# EAGLE library part SD1602VBWB (library SUNLIKE_LCD_SD1602)
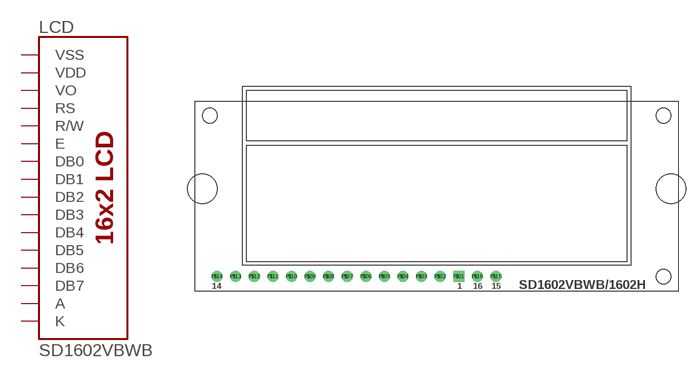
[diagram p0: symbol with the pads of SD1602VBWB; footprint SD1602VBWB]

Designator prefix LCD

## SD1602VBWB  [SD1602VBWB]
P$01  VSS  pwr
P$02  VDD  pwr
P$03  VO
P$04  RS  in
P$05  R/W  in
P$06  E  in
P$07  DB0
P$08  DB1
P$09  DB2
P$10  DB3
P$11  DB4
P$12  DB5
P$13  DB6
P$14  DB7
P$15  A  pwr
P$16  K  pwr

## Footprint SD1602VBWB (pad centres in mm)
drill 1 square: P$01 33.02,0
drill 1 round: P$02 30.48,0; P$03 27.94,0; P$04 25.4,0; P$05 22.86,0; P$06 20.32,0; P$07 17.78,0; P$08 15.24,0; P$09 12.7,0; P$10 10.16,0; P$11 7.62,0; P$12 5.08,0; P$13 2.54,0; P$14 0,0; P$15 38.1,0; P$16 35.56,0
hole 4 at -2,12
hole 4 at 62,12
hole 2 at -1,22
hole 2 at 61,22
hole 2 at 61,0